# Altium schematic symbol library Sprite.SCHLIB: 50 symbols
Pins are listed as number, name and electrical type; pins without a type are passive.

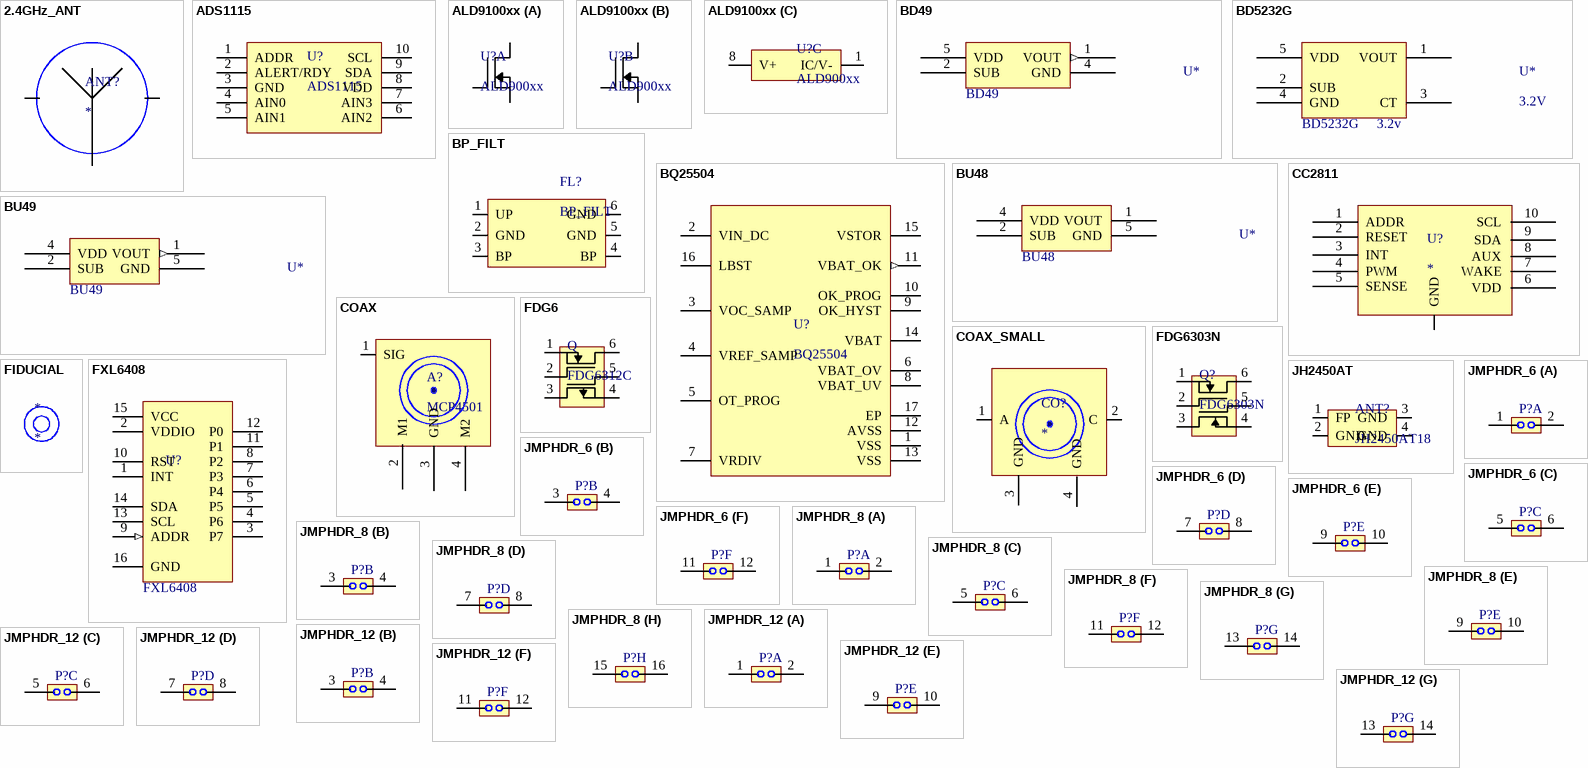
[diagram p0: symbols 2.4GHz_ANT to JMPHDR_12]

## 2.4GHz_ANT
designator ANT?  (net tie, no BOM)
footprint IIF_INV (PCB antenna flipped)
pins: 1 ANT, 2 GND, 3 GND

## ADS1115
designator U?
footprint VSSOP10
pins: 1 ADDR, 2 ALERT/RDY, 3 GND, 4 AIN0, 5 AIN1, 6 AIN2, 7 AIN3, 8 VDD, 9 SDA (oc), 10 SCL (oc)

## ALD9100xx
designator U?, comment ALD900xx
footprint SOIC8
part A pins: 2 GN1, 3 DN1, 4 SN1
part B pins: 5 SN2, 6 DN2, 7 GN2
part C pins: 1 IC/V-, 8 V+

## BD49
designator U*  Name: BD49
IC DETECTOR
footprint VSOF5
footprint SOP4
pins: 1 VOUT (out), 2 SUB, 4 GND (power), 5 VDD

## BD5232G
designator U*, comment 3.2V  Name: BD5232G
IC DETECTOR VOLT 3.2V ODRN; Value: 3.2v
footprint VSOF5
pins: 1 VOUT, 2 SUB, 3 CT, 4 GND, 5 VDD

## BP_FILT
designator FL?
LFB182G45BG5D920 murata bandpass filter
pins: 1 UP, 2 GND, 3 BP, 4 BP, 5 GND, 6 GND

## BQ25504
designator U?
footprint VQFN-16 (QFN, 16-Leads, Body 3x3mm, Pitch 0.5mm, Thermal Pad 1.65x1.65mm)
pins: 1 VSS (power), 2 VIN_DC (power), 3 VOC_SAMP, 4 VREF_SAMP, 5 OT_PROG, 6 VBAT_OV, 7 VRDIV, 8 VBAT_UV, 9 OK_HYST, 10 OK_PROG, 11 VBAT_OK (out), 12 AVSS (power), 13 VSS (power), 14 VBAT (power), 15 VSTOR, 16 LBST, 17 EP (power)

## BU48
designator U*  Name: BU48
IC DETECTOR OPEN-DRAIN
footprint VSOF5
footprint SOP4; pin to pad 2>3 4>2 5>4
pins: 1 VOUT (oc), 2 SUB, 4 VDD (power), 5 GND (power)

## BU49
designator U*  Name: BU49
IC DETECTOR CMOS
footprint VSOF5
footprint SOP4; pin to pad 2>3 4>2 5>4
pins: 1 VOUT (out), 2 SUB, 4 VDD (power), 5 GND (power)

## CC2811
designator U?
footprint LGA10
pins: 1 ADDR, 2 RESET, 3 INT, 4 PWM, 5 SENSE, 6 VDD, 7 WAKE, 8 AUX, 9 SDA, 10 SCL, 11 GND

## COAX
designator A?, comment MCP4501
footprint COAX (MM5829 COAX SOCK)
pins: 1 SIG, 2 M1, 3 GND, 4 M2

## COAX_SMALL
designator CO?
ms-156hf
footprint COAX SMALL (MS-156HF)
pins: 1 A, 2 C, 3 GND, 4 GND

## FDG6
designator Q, comment FDG6312C
dual N & P channel
footprint SC70-6
pins: 1 Sn, 2 Gn, 3 Dp, 4 Sp, 5 Gp, 6 Dn

## FDG6303N
designator Q?
Dual N-channel FET
footprint SC70-6
pins: 1 S1, 2 G1, 3 D2, 4 S2, 5 G2, 6 D1

## FIDUCIAL
designator *
footprint FIDUCIAL (1mm inner 2mm outer)

## FXL6408
designator U?
Name: FXL6408
footprint 16-UMLP
pins: 1 INT (oc), 2 VDDIO (power), 3 P7, 4 P6, 5 P5, 6 P4, 7 P3, 8 P2, 9 ADDR (in), 10 RST (oc), 11 P1, 12 P0, 13 SCL (oc), 14 SDA (oc), 15 VCC (power), 16 GND (power)

## JH2450AT
designator ANT?, comment JH2450AT18
footprint CHIP_ANT (4 MM x 2 MM JOHANSON)
pins: 1 FP, 2 GND, 3 GND, 4 GND

## JMPHDR_6
designator P?  (value not drawn)
footprint MHDR2X6
part A pins: 1, 2
part B pins: 3, 4
part C pins: 5, 6
part D pins: 7, 8
part E pins: 9, 10
part F pins: 11, 12

## JMPHDR_8
designator P?  (value not drawn)
footprint MHDR2X8
part A pins: 1, 2
part B pins: 3, 4
part C pins: 5, 6
part D pins: 7, 8
part E pins: 9, 10
part F pins: 11, 12
part G pins: 13, 14
part H pins: 15, 16

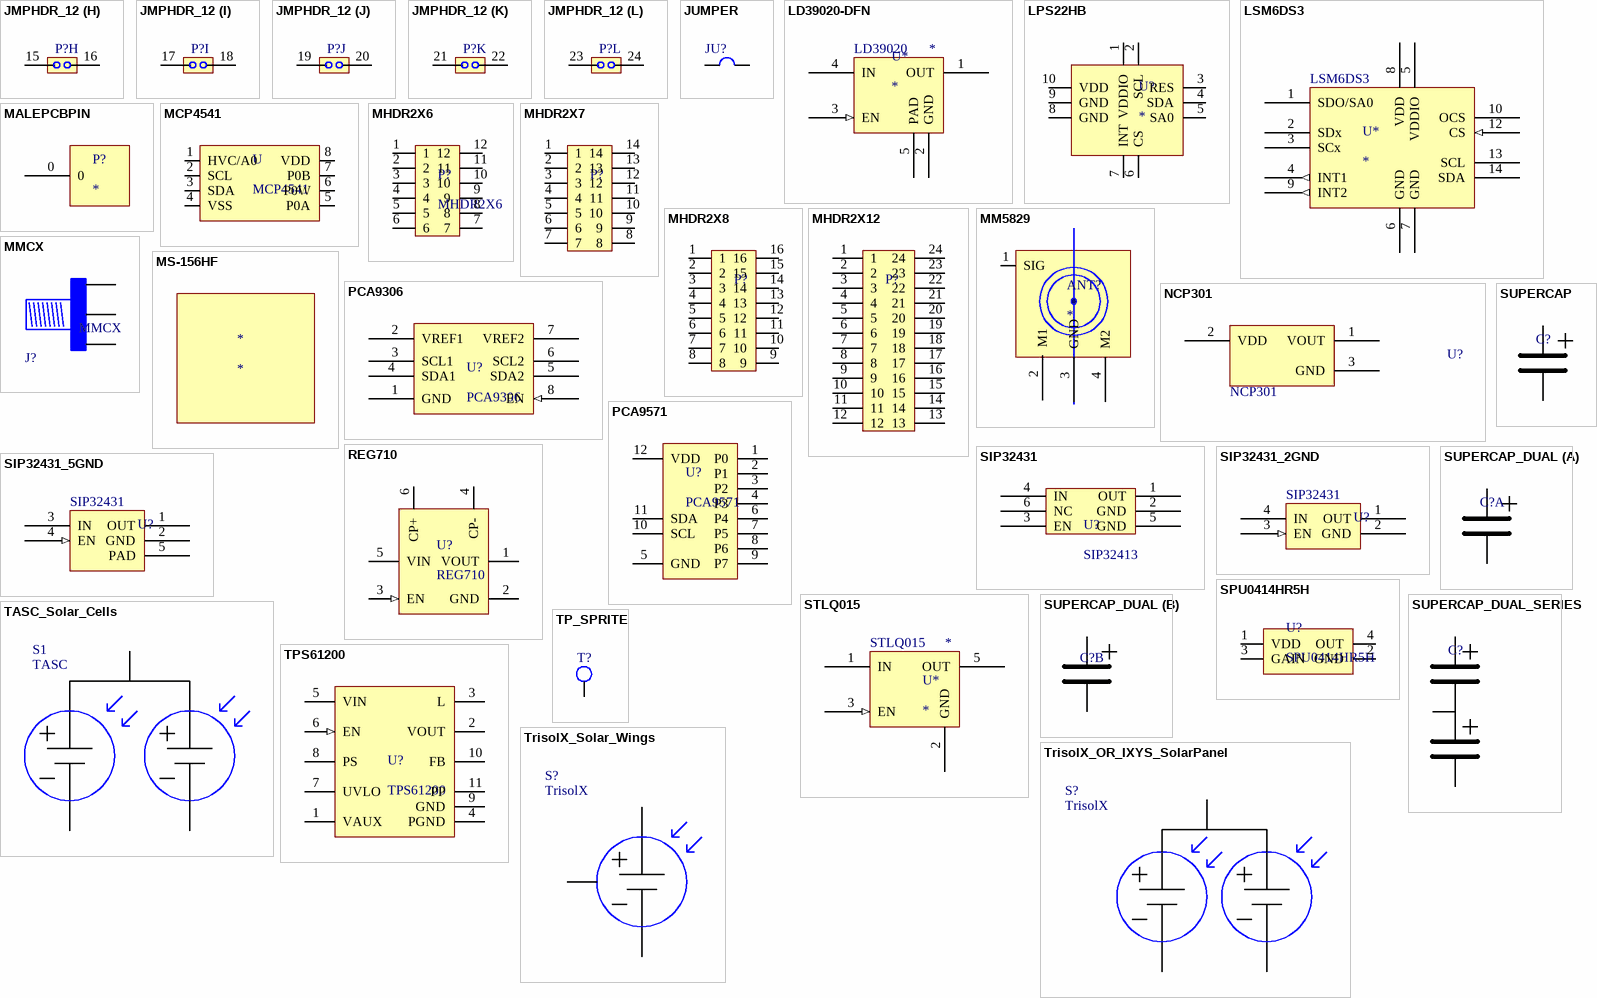
[diagram p1: symbols JMPHDR_12 to TrisolX_Solar_Wings]

## JMPHDR_12
designator P?  (value not drawn)
footprint MHDR2X12
part A pins: 1, 2
part B pins: 3, 4
part C pins: 5, 6
part D pins: 7, 8
part E pins: 9, 10
part F pins: 11, 12
part G pins: 13, 14
part H pins: 15, 16
part I pins: 17, 18
part J pins: 19, 20
part K pins: 21, 22
part L pins: 23, 24

## JUMPER
designator JU?  (value not drawn)
footprint JUMPER0603 (Surface Mount; Body 1.6 x 0.8 mm (LxW typ))
pins: 1, 2

## LD39020-DFN
designator U*  Name: LD39020
Low quiescent current LDO; Value: *
footprint DFN1x1-4L
footprint SOT-23-5 (SOT23-5)
pins: 1 OUT (power), 2 GND (power), 3 EN (in), 4 IN (power), 5 PAD

## LPS22HB
designator U?
footprint HLGA-10L (LPS22HB digital MEMS nano pressure sensor)
pins: 1 VDDIO, 2 SCL, 3 RES, 4 SDA, 5 SA0, 6 CS, 7 INT, 8 GND, 9 GND, 10 VDD

## LSM6DS3
designator U*  Name: LSM6DS3
footprint LGA-14
pins: 1 SDO/SA0, 2 SDx, 3 SCx, 4 INT1 (out), 5 VDDIO, 6 GND (power), 7 GND (power), 8 VDD, 9 INT2 (out), 10 OCS, 12 CS (in), 13 SCL, 14 SDA

## MALEPCBPIN
designator P?
Mill-Max Male PCB Pin PN 1508
footprint MALEPCBPIN1508 (Mill-Max Male PCB pin PN 1508)
pins: 0

## MCP4541
designator U
footprint DFN8 (3MM X 3MM microchip pkg)
footprint MSOP8
pins: 1 HVC/A0, 2 SCL, 3 SDA, 4 VSS, 5 P0A, 6 P0W, 7 P0B, 8 VDD

## MHDR2X6
designator P?
footprint MHDR2X6
pins: 1, 2, 3, 4, 5, 6, 7, 8, 9, 10, 11, 12

## MHDR2X7
designator P?  (value not drawn)
footprint MHDR2X7
pins: 1, 2, 3, 4, 5, 6, 7, 8, 9, 10, 11, 12, 13, 14

## MHDR2X8
designator P?  (value not drawn)
footprint MHDR2X8
pins: 1, 2, 3, 4, 5, 6, 7, 8, 9, 10, 11, 12, 13, 14, 15, 16

## MHDR2X12
designator P?  (value not drawn)
footprint MHDR2X12
pins: 1, 2, 3, 4, 5, 6, 7, 8, 9, 10, 11, 12, 13, 14, 15, 16, 17, 18, 19, 20, 21, 22, 23, 24

## MM5829
designator ANT?
pins: 1 SIG, 2 M1, 3 GND, 4 M2

## MMCX
designator J?
MMCX RF Connector; Manufacturer Part Number: 0734150961; Manufacturer: Molex; Note: *; Digi-Key Part Number: WM5550-ND; Distributor: Digikey; Distributor Part Number: WM5550-ND
footprint MMCX-TH (MMCX Molex TH 734151001)
footprint MMCX-edge (MMCX - Board Edge Connector)
pins: 1, 2, 2

## MS-156HF
designator *

## NCP301
designator U?  Name: NCP301
IC DETECTOR OPEN-DRAIN
footprint SOT23-5
pins: 1 VOUT (oc), 2 VDD (power), 3 GND (power)

## PCA9306
designator U?
I2C Level Shifter
footprint 8-VFSOP
pins: 1 GND (power), 2 VREF1 (power), 3 SCL1 (oc), 4  SDA1 (oc), 5 SDA2 (oc), 6 SCL2 (oc), 7 VREF2 (power), 8 EN (in)

## PCA9571
designator U?
I2C IO Expander
footprint XQFN12
pins: 1 P0, 2 P1, 3 P2, 4 P3, 5 GND, 6 P4, 7 P5, 8 P6, 9 P7, 10 SCL, 11 SDA, 12 VDD

## REG710
designator U?
footprint SOT23-6
pins: 1 VOUT, 2 GND (power), 3 EN (in), 4 CP-, 5 VIN (power), 6 CP+

## SIP32431
designator U?, comment SIP32413
footprint SC70-6
pins: 1 OUT, 2 GND, 3 EN, 4 IN, 5 GND, 6 NC

## SIP32431_2GND
designator U?  Name: SIP32431  (hidden comment: SIP32431_2GND)
Slew Rate Controlled Load Switch with Reserve Blocking
footprint SC70-6
footprint TDFN4
pins: 1 OUT, 2 GND (power), 3 EN (in), 4 IN (power)

## SIP32431_5GND
designator U?  Name: SIP32431  (hidden comment: SIP32431_5GND)
Slew Rate Controlled Load Switch with Reserve Blocking
footprint SC70-6
footprint TDFN4
pins: 1 OUT, 2 GND (power), 3 IN (power), 4 EN (in), 5 PAD

## SPU0414HR5H
designator U?
Knowles Analog Top MEMS Microphone
footprint SPU0414HR5H (Knowles MEMS Mic Analog Top)
pins: 1 VDD (power), 2 GND (power), 3 GAIN, 4 OUT (power)

## STLQ015
designator U*  Name: STLQ015
Ultra low quiescent curent LDO, 150mA; Value: *
footprint SOT-23-5 (SOT23-5)
pins: 1 IN (power), 2 GND (power), 3 EN (in), 5 OUT (power)

## SUPERCAP
designator C?, comment 304DCN2R7SCBB  (value not drawn)
EDLC Supercap
footprint CAP_ILLINOIS_DCN (Supercapacitor Radial Can)
pins: 1 P, 2 N

## SUPERCAP_DUAL
designator C?
EDLC Supercap Dual
footprint SUPERCAP_DMHA14R (Murata dual supercap)
part A pins: 1 P2, 2 N2
part B pins: 3 P1, 4 N1

## SUPERCAP_DUAL_SERIES
designator C?
EDLC Supercap Dual with Balancing Terminal
footprint SUPERCAP_DMT (Murata dual supercap 21x14x2.2mm)
pins: 1 P, 2 BAL, 3 N

## TASC_Solar_Cells
designator S1, comment TASC
Triangular Advanced Solar Cells (TASC); Manufacturer: Spectrolab; Digi-Key Part Number: *; Manufacturer Part Number: TASC; Rating: *; Value: *; Note: *; Distributor: *; Distributor Part Number: *; DataSheet: http://www.spectrolab.com/DataSheets/PV/PV_NM_TASC_ITJ.pdf
footprint TASC_Basic
pins: 1 pos, 2 neg_1, 3 neg_3

## TP_SPRITE
designator T?
footprint TP_ROUND
footprint TP_OCTA
pins: 0

## TPS61200
designator U?
footprint VSON-10 (SON, 10-Leads, Body 3x3mm, Pitch 0.5mm, Thermal Pad 2.4x1.65mm, TI Recommended)
pins: 1 VAUX, 2 VOUT, 3 L, 4 PGND (power), 5 VIN (power), 6 EN (in), 7 UVLO, 8 PS, 9 GND (power), 10 FB, 11 PP (power)

## TrisolX_OR_IXYS_SolarPanel
designator S?, comment TrisolX
TrisolX Solar Wings; Digi-Key Part Number: *; Manufacturer: TrisolX; Manufacturer Part Number: TrisolX Solar Wings; Rating: *; Value: *; Note: *; Distributor: *; Distributor Part Number: *; DataSheet: http://www.trisolx.com/wp-content/uploads/2015/03/TrisolX-Solar-Wing-Data-Sheet1.pdf
footprint TricoLX - Basic_V3_MIRROR_STRAIGHT_OR_IXYS (TrisolX Solar Wings)
pins: 1 pos, 2 negA, 3 negB

## TrisolX_Solar_Wings
designator S?, comment TrisolX
TrisolX Solar Wings; Digi-Key Part Number: *; Manufacturer: TrisolX; Manufacturer Part Number: TrisolX Solar Wings; Rating: *; Value: *; Note: *; Distributor: *; Distributor Part Number: *; DataSheet: http://www.trisolx.com/wp-content/uploads/2015/03/TrisolX-Solar-Wing-Data-Sheet1.pdf
footprint TricoLX - Basic (TrisolX Solar Wings)
footprint TricoLX - Basic_V3_MIRROR (TrisolX Solar Wings)
footprint TricoLX - Basic_V3_MIRROR_STRAIGHT (TrisolX Solar Wings)
footprint KXOB22 (IXYS Solar Panel)
footprint TricoLX - Basic_V3_MIRROR_STRAIGHT_OR_IXYS (TrisolX Solar Wings)
pins: 1 pos, 2 neg, 3 OR